# EAGLE library part ZIF10-5-MOLEX (library JLB6_Connec)
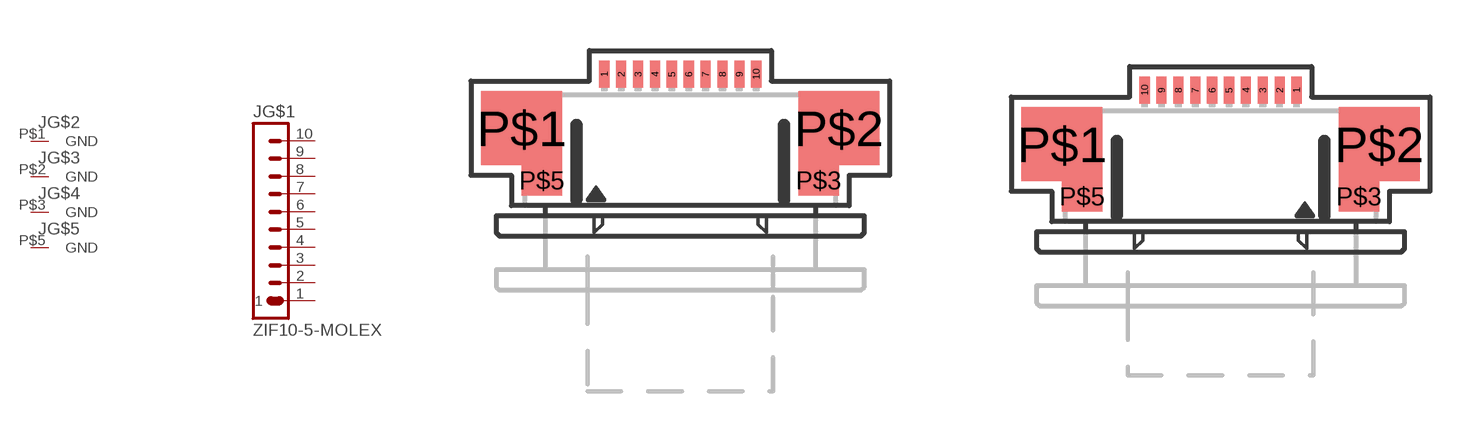
[diagram p83: symbol with the pads of 52746-1071-J; footprints 52746-1071-J, 52746-1071-J-REVERSE]

Designator prefix J; gates G$1=1X10 G$2=GND G$3=GND G$4=GND G$5=GND

## ZIF10-5-MOLEXSTD  [52746-1071-J]
1  G$1:1  pas
2  G$1:2  pas
3  G$1:3  pas
4  G$1:4  pas
5  G$1:5  pas
6  G$1:6  pas
7  G$1:7  pas
8  G$1:8  pas
9  G$1:9  pas
10  G$1:10  pas
P$1  G$2:GND  pwr
P$2  G$3:GND  pwr
P$3  G$4:GND  pwr
P$5  G$5:GND  pwr

## ZIF10-5-MOLEXREV  [52746-1071-J-REVERSE]
Pads as for 52746-1071-J

## Footprint 52746-1071-J (pad centres in mm)
connecteur FFC Zif 0,5mm 10p Molex 52746-1071
smd 0.3 x 0.8: 1 -2.25,2.5; 2 -1.75,2.5; 3 -1.25,2.5; 4 -0.75,2.5; 5 -0.25,2.5; 6 0.25,2.5; 7 0.75,2.5; 8 1.25,2.5; 9 1.75,2.5; 10 2.25,2.5
smd 2.4 x 2.2: P$1 -4.7,0.9; P$2 4.7,0.9
smd 1.2 x 0.9: P$3 4.1,-0.65; P$5 -4.1,-0.65

## Footprint 52746-1071-J-REVERSE (pad centres in mm)
ZIF FPC 10p reverse for direct connection to regular
smd 0.3 x 0.8: 1 2.25,2.5; 2 1.75,2.5; 3 1.25,2.5; 4 0.75,2.5; 5 0.25,2.5; 6 -0.25,2.5; 7 -0.75,2.5; 8 -1.25,2.5; 9 -1.75,2.5; 10 -2.25,2.5
smd 2.4 x 2.2: P$1 -4.7,0.9; P$2 4.7,0.9
smd 1.2 x 0.9: P$3 4.1,-0.65; P$5 -4.1,-0.65